# Altium footprint library RC.PcbLib: 29 footprints (part 2 of 2)
Each footprint in its own frame and in the unit in brackets; x right, y up, seen from the top. Pads: shape width x height; smd on the part's side, far side on the other; paste and mask are expansions set on the pad; w line width, h text height; cw(c..) or ccw(c..) is an arc to the next point about the centre after c.
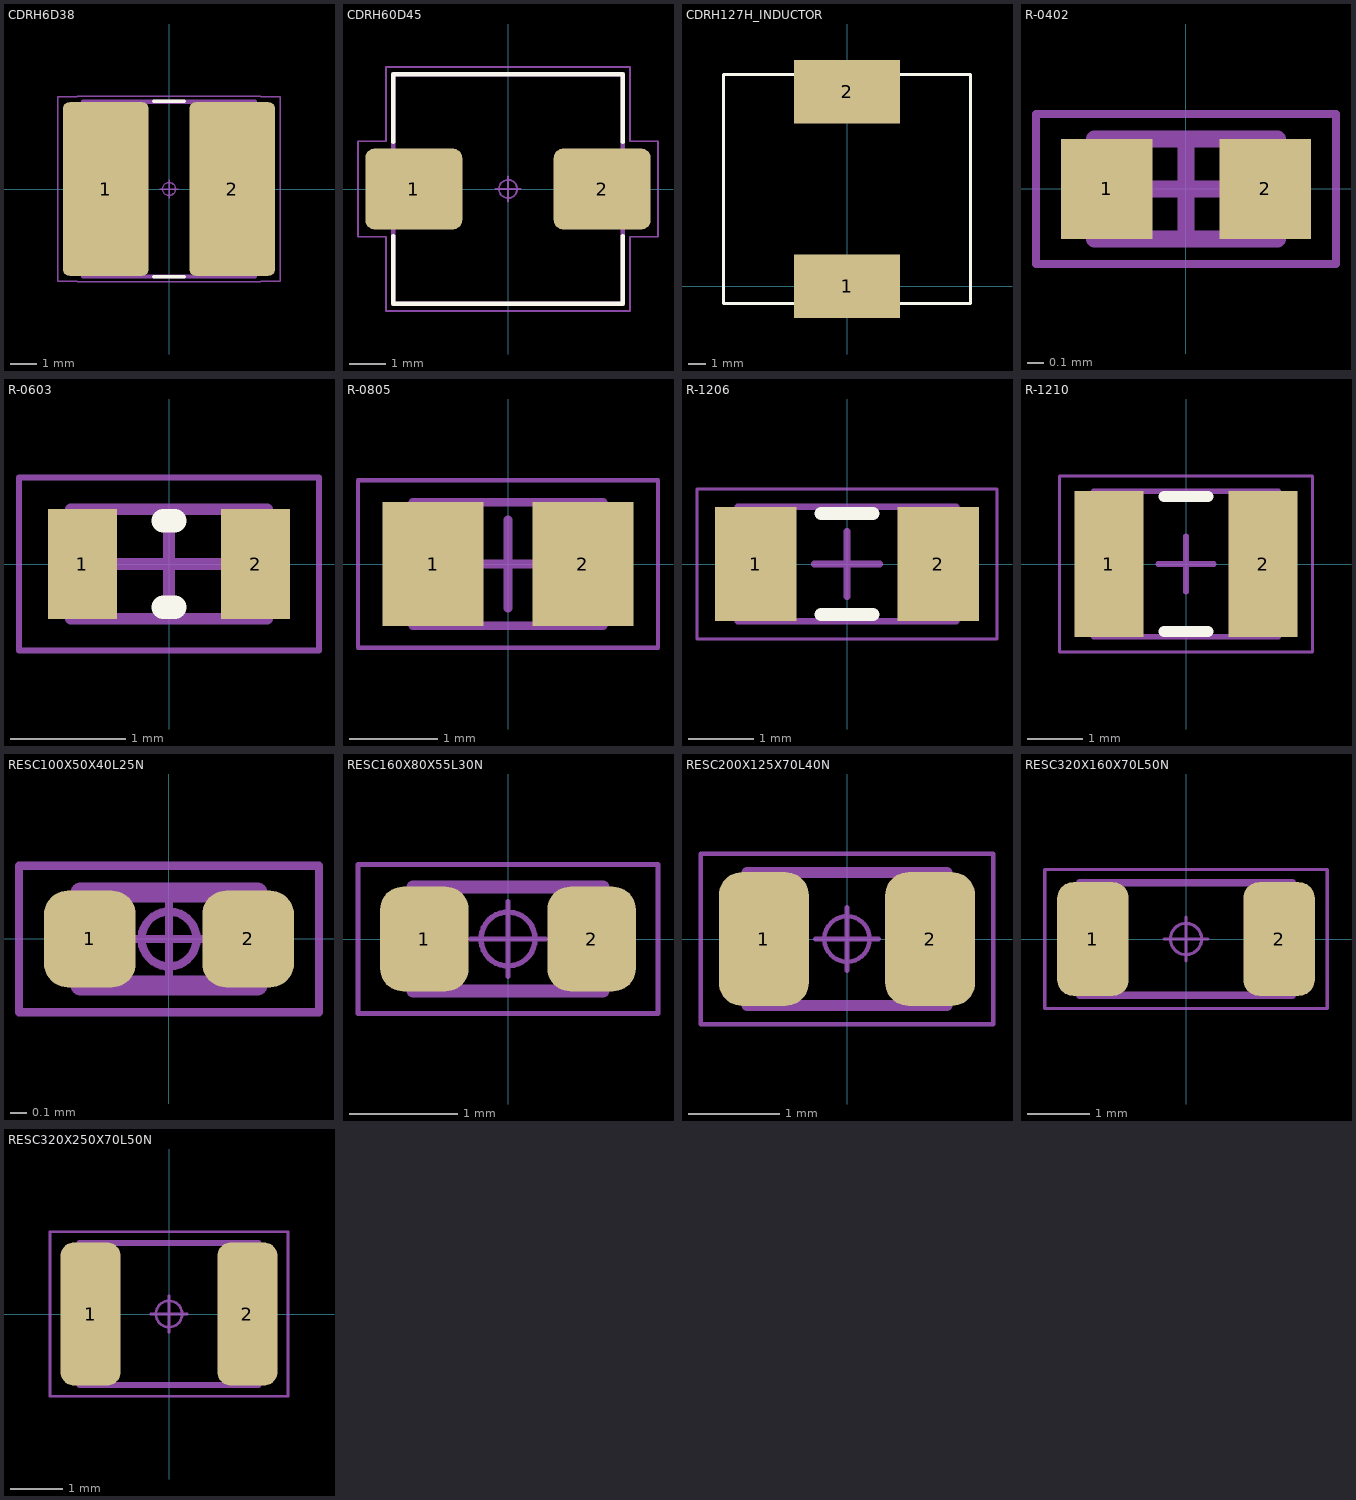
[diagram p1: the footprints below, top view; thin cyan lines are the x and y axes]

## CDRH6D38 [mm] "Inductor, Molded Body; 6.50 mm L X 6.55 mm W X 4.00 mm H body"
height 4
pads (2):
  rrect15% 3.28x6.63 smd: 1(-2.415,0) 2(2.415,0)
Top Overlay:
  lines w0.12: -0.595,-3.35 0.595,-3.35 ; -0.595,3.35 0.595,3.35
Mechanical 11:
  lines w0.12: -3.3,-3.35 3.3,-3.35 3.3,3.35 -3.3,3.35 -3.3,-3.35
Mechanical 12:
  lines w0.025: -3.35,-3.25 -3.35,3.25 -1.1,3.25 -1.1,-3.25 -3.35,-3.25 ; -3.25,-3.275 3.25,-3.275 3.25,3.275 -3.25,3.275 -3.25,-3.275 ; 1.1,-3.25 3.35,-3.25 3.35,3.25 1.1,3.25 1.1,-3.25
Mechanical 15:
  circle w0.05: c0,0 r0.25
  lines w0.05: -0.35,0 0.35,0 ; 0,-0.35 0,0.35 ; -4.255,-3.515 -3.5,-3.515 -3.5,-3.55 3.5,-3.55 3.5,-3.515 4.255,-3.515 4.255,3.515 3.5,3.515 3.5,3.55 -3.5,3.55 -3.5,3.515 -4.255,3.515 -4.255,-3.515
Mechanical 16:
  text ".Designator" at 0,0 h1.2
3D body "CDRH6D38.STEP": height 4, standoff 0, extent -3.35,-3.275 3.35,3.275

## CDRH60D45 [mm] "Inductor, Molded Body; 6.20 mm L X 6.20 mm W X 4.80 mm H body"
height 4.8
pads (2):
  rrect23% 2.66x2.22 smd: 1(-2.585,0) 2(2.585,0)
Top Overlay:
  lines w0.12: -3.15,-1.29 -3.15,-3.15 3.15,-3.15 3.15,-1.29 ; -3.15,1.29 -3.15,3.15 3.15,3.15 3.15,1.29
Mechanical 11:
  lines w0.12: -3.15,-3.15 -3.15,3.15 3.15,3.15 3.15,-3.15 -3.15,-3.15
Mechanical 12:
  lines w0.025: -3.25,-1 -1.55,-1 -1.55,1 -3.25,1 -3.25,-1 ; -3.1,-3.1 -3.1,3.1 3.1,3.1 3.1,-3.1 -3.1,-3.1 ; 1.55,-1 1.55,1 3.25,1 3.25,-1 1.55,-1
Mechanical 15:
  circle w0.05: c0,0 r0.25
  lines w0.05: -0.35,0 0.35,0 ; 0,-0.35 0,0.35 ; -4.115,-1.31 -4.115,1.31 -3.35,1.31 -3.35,3.35 3.35,3.35 3.35,1.31 4.115,1.31 4.115,-1.31 3.35,-1.31 3.35,-3.35 -3.35,-3.35 -3.35,-1.31 -4.115,-1.31
Mechanical 16:
  text ".Designator" at 0,0 h1.2
3D body "CDRH60D45.STEP": height 4.8, standoff 0, extent -3.25,-3.1 3.25,3.1

## CDRH127H_INDUCTOR [mm]
pads (2):
  rect 6x3.6 smd: 1(0,0) 2(0,11)
Top Overlay:
  lines w0.17: -3,-1 -7,-1 -7,12 -4,12 -3,12 ; 3,-1 7,-1 7,12 3,12
3D body "SUMIDA-CDRH127.step": height 7.5, standoff 0.05, extent -6,-0.671 6,11.671

## R-0402 [mm] "Chip Resistor, 2-Leads, Body 1,05x0,54mm, IPC Medium Density"
height 0.5
pads (2):
  rect 0.55x0.6 smd: 1(-0.475,0) 2(0.475,0)
Mechanical 13:
  lines w0.1: -0.55,-0.3 0.55,-0.3 0.55,0.3 -0.55,0.3 -0.55,-0.3
Mechanical 15:
  lines w0.05: -0.9,-0.45 0.9,-0.45 0.9,0.45 -0.9,0.45 -0.9,-0.45
  lines w0.1: -0.3,0 0.3,0 ; 0,-0.3 0,0.3
3D body "R_0402_1005Metric.step": height 0.35, standoff 0, extent -0.5,-0.25 0.5,0.25

## R-0603 [mm] "Chip Resistor, 2-Leads, Body 1,60x0,82mm, IPC Medium Density"
height 0.6
pads (2):
  rect 0.6x0.95 smd: 1(-0.75,0) 2(0.75,0)
Top Overlay:
  lines w0.2: -0.05,-0.375 0.05,-0.375 ; -0.05,0.375 0.05,0.375
Mechanical 13:
  lines w0.1: -0.85,-0.475 -0.85,0.475 0.85,0.475 0.85,-0.475 -0.85,-0.475
Mechanical 15:
  lines w0.05: -1.3,-0.75 -1.3,0.75 1.3,0.75 1.3,-0.75 -1.3,-0.75
  lines w0.1: -0.475,0 0.475,0 ; 0,-0.475 0,0.475
3D body "R_0603_1608Metric.step": height 0.45, standoff 0, extent -0.8,-0.4 0.8,0.4

## R-0805 [mm] "Chip Resistor, 2-Leads, Body 2,00x1,25mm, IPC Medium Density"
height 0.65
pads (2):
  rect 1.15x1.4 smd: 1(-0.85,0) 2(0.85,0)
Mechanical 13:
  lines w0.1: -1.075,-0.7 1.075,-0.7 1.075,0.7 -1.075,0.7 -1.075,-0.7
Mechanical 15:
  lines w0.05: -1.7,-0.95 1.7,-0.95 1.7,0.95 -1.7,0.95 -1.7,-0.95
  lines w0.1: -0.5,0 0.5,0 ; 0,-0.5 0,0.5
3D body "R_0805_2012Metric.step": height 0.45, standoff 0, extent -1,-0.6 1,0.6

## R-1206 [mm] "Chip Resistor, 2-Leads, Body 3,20x1,60mm, IPC Medium Density"
height 0.71
pads (2):
  rect 1.25x1.75 smd: 1(-1.4,0) 2(1.4,0)
Top Overlay:
  lines w0.2: -0.4,-0.775 0.4,-0.775 ; -0.4,0.775 0.4,0.775
Mechanical 13:
  lines w0.1: -1.675,-0.875 1.675,-0.875 1.675,0.875 -1.675,0.875 -1.675,-0.875
Mechanical 15:
  lines w0.05: -2.3,-1.15 2.3,-1.15 2.3,1.15 -2.3,1.15 -2.3,-1.15
  lines w0.1: -0.5,0 0.5,0 ; 0,-0.5 0,0.5
3D body "R_1206_3216Metric.step": height 0.55, standoff 0, extent -1.6,-0.8 1.6,0.8

## R-1210 [mm] "Chip Resistor, 2-Leads, Body 3,20x2,49mm, IPC Medium Density"
height 0.71
pads (2):
  rect 1.25x2.65 smd: 1(-1.4,0) 2(1.4,0)
Top Overlay:
  lines w0.2: -0.4,-1.225 0.4,-1.225 ; -0.4,1.225 0.4,1.225
Mechanical 13:
  lines w0.1: -1.675,-1.32 -1.675,1.32 1.675,1.32 1.675,-1.32 -1.675,-1.32
Mechanical 15:
  lines w0.05: -2.3,-1.6 -2.3,1.6 2.3,1.6 2.3,-1.6 -2.3,-1.6
  lines w0.1: -0.5,0 0.5,0 ; 0,-0.5 0,0.5
3D body "R_1210_3225Metric.step": height 0.55, standoff 0, extent -1.6,-1.25 1.6,1.25

## RESC100X50X40L25N [mm] "Resistor, Chip; 1.00 mm L X 0.50 mm W X 0.40 mm H body"
height 0.4
pads (2):
  rrect51% 0.55x0.58 smd paste-0.58 mask+0: 1(-0.475,0) 2(0.475,0)
Mechanical 13:
  lines w0.12: -0.53,-0.28 0.53,-0.28 0.53,0.28 -0.53,0.28 -0.53,-0.28
Mechanical 15:
  circle w0.05: c0,0 r0.165
  lines w0.05: -0.22,0 0.22,0 ; 0,-0.22 0,0.22 ; -0.9,-0.44 0.9,-0.44 0.9,0.44 -0.9,0.44 -0.9,-0.44
3D body "RES-0402.stp": height 0.34, standoff 0, extent -0.5,-0.25 0.5,0.25

## RESC160X80X55L30N [mm] "Resistor, Chip; 1.60 mm L X 0.80 mm W X 0.55 mm H body"
height 0.55
pads (2):
  rrect51% 0.82x0.97 smd paste-0.97 mask+0: 1(-0.775,0) 2(0.775,0)
Mechanical 13:
  lines w0.12: -0.88,-0.48 -0.88,0.48 0.88,0.48 0.88,-0.48 -0.88,-0.48
Mechanical 15:
  circle w0.05: c0,0 r0.25
  lines w0.05: -0.345,0 0.345,0 ; 0,-0.345 0,0.345 ; -1.39,-0.69 -1.39,0.69 1.39,0.69 1.39,-0.69 -1.39,-0.69
3D body "RES-0603.stp": height 0.43, standoff 0, extent -0.8,-0.4 0.8,0.4

## RESC200X125X70L40N [mm] "Resistor, Chip; 2.00 mm L X 1.25 mm W X 0.70 mm H body"
height 0.7
pads (2):
  rrect51% 0.99x1.47 smd paste-1.47 mask+0: 1(-0.915,0) 2(0.915,0)
Mechanical 13:
  lines w0.12: -1.1,-0.73 1.1,-0.73 1.1,0.73 -1.1,0.73 -1.1,-0.73
Mechanical 15:
  circle w0.05: c0,0 r0.25
  lines w0.05: -0.35,0 0.35,0 ; 0,-0.35 0,0.35 ; -1.61,-0.94 1.61,-0.94 1.61,0.94 -1.61,0.94 -1.61,-0.94
3D body "RES-0805.stp": height 0.58, standoff 0, extent -1,-0.625 1,0.625

## RESC320X160X70L50N [mm] "Resistor, Chip; 3.20 mm L X 1.60 mm W X 0.70 mm H body"
height 0.7
pads (2):
  rrect44% 1.14x1.82 smd paste-1.82 mask+0: 1(-1.49,0) 2(1.49,0)
Mechanical 13:
  lines w0.12: -1.7,-0.9 -1.7,0.9 1.7,0.9 1.7,-0.9 -1.7,-0.9
Mechanical 15:
  circle w0.05: c0,0 r0.25
  lines w0.05: -0.35,0 0.35,0 ; 0,-0.35 0,0.35 ; -2.26,-1.11 -2.26,1.11 2.26,1.11 2.26,-1.11 -2.26,-1.11
3D body "RES-1206.stp": height 0.58, standoff 0, extent -1.6,-0.8 1.6,0.8

## RESC320X250X70L50N [mm] "Resistor, Chip; 3.20 mm L X 2.50 mm W X 0.70 mm H body"
height 0.7
pads (2):
  rrect44% 1.14x2.72 smd paste-2.72 mask+0: 1(-1.49,0) 2(1.49,0)
Mechanical 13:
  lines w0.12: -1.7,-1.35 1.7,-1.35 1.7,1.35 -1.7,1.35 -1.7,-1.35
Mechanical 15:
  circle w0.05: c0,0 r0.25
  lines w0.05: -0.35,0 0.35,0 ; 0,-0.35 0,0.35 ; -2.26,-1.56 2.26,-1.56 2.26,1.56 -2.26,1.56 -2.26,-1.56
3D body "RES-1210.stp": height 0.58, standoff 0, extent -1.6,-1.25 1.6,1.25